# Altium schematic symbol library SN65HVD230DR.SchLib: 1 symbol
Pins are listed as number, name and electrical type; pins without a type are passive.

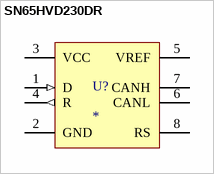
[diagram p0: symbol SN65HVD230DR]

## SN65HVD230DR
designator U?
TEXAS INSTRUMENTS - SN65HVD230DR - TRANSCEIVER CAN, 65HVD230, SOIC8
footprint SN65HVD230DR (TEXAS INSTRUMENTS - SN65HVD230DR - TRANSCEIVER CAN, 65HVD230, SOIC8)
pins: 1 D (in), 2 GND (power), 3 VCC (power), 4 R (out), 5 VREF, 6 CANL, 7 CANH, 8 RS